# Altium footprint library EG2219.PcbLib: 1 footprints
Each footprint in its own frame and in the unit in brackets; x right, y up, seen from the top. Pads: shape width x height; smd on the part's side, far side on the other; paste and mask are expansions set on the pad; w line width, h text height; cw(c..) or ccw(c..) is an arc to the next point about the centre after c.
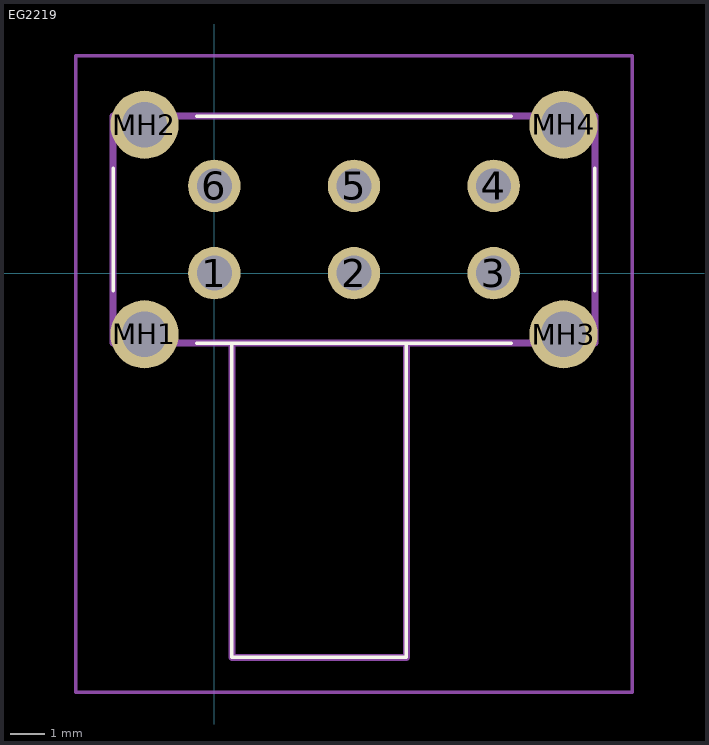
[diagram p0: the footprint, top view; thin cyan lines are the x and y axes]

## EG2219 [mm]
pads (10):
  round 1.5 hole 1: 1(0,0) 2(4,0) 3(8,0) 4(8,2.5) 5(4,2.5) 6(0,2.5)
  round 1.95 hole 1.3: MH1(-2,-1.75) MH2(-2,4.25) MH3(10,-1.75) MH4(10,4.25)
Top Overlay:
  lines w0.1: -2.9,-0.5 -2.9,3 ; -0.5,-2 8.5,-2 ; -0.5,4.5 8.5,4.5 ; 0.5,-2 0.5,-11 5.5,-11 5.5,-2 ; 10.9,-0.5 10.9,3
Mechanical 15:
  lines w0.2: 0.5,-2 0.5,-11 5.5,-11 5.5,-2 ; -2.9,-2 10.9,-2 10.9,4.5 -2.9,4.5 -2.9,-2
Mechanical 20:
  lines w0.1: -3.975,-12 11.975,-12 11.975,6.225 -3.975,6.225 -3.975,-12